# Altium integrated library ECS-160-12-33Q-JES-TR.IntLib: 1 symbol
Pins are listed as number, name and electrical type; pins without a type are passive.

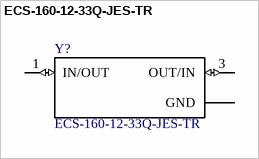
[diagram p0: symbol ECS-160-12-33Q-JES-TR]

## ECS-160-12-33Q-JES-TR
designator Y?
/ AEC-Q200 qualified, Crystal, Ceramic Seam Seal, 16.000MHZ, 12pf, 20ppm @ 25C, 50ppm -40+125C, 3.2 x 2.5 x 0.8mm /; MF: ECS Inc.; Package: SMD-4 ECS International; Digi-Key_Purchase_URL: https://www.digikey.com/product-detail/en/ecs-inc/ECS-160-12-33Q-JES-TR/XC2147CT-ND/6050976?utm_source=snapeda&utm_medium=aggregator&utm_campaign=symbol; MP: ECS-160-12-33Q-JES-TR; SnapEDA_Link: https://www.snapeda.com/parts/ECS-160-12-33Q-JES-TR/ECS%20Inc./view-part/?ref=snap; Digi-Key_Part_Number: XC2147CT-ND; Value: *
footprint *XTAL_ECS-160-12-33Q-JES-TR
pins: 1 IN/OUT (io), 2 GND (power), 3 OUT/IN (io), 4 GND (power)